# Altium integrated library Silicon Labs Wireless.IntLib: 71 symbols (part 7 of 7)
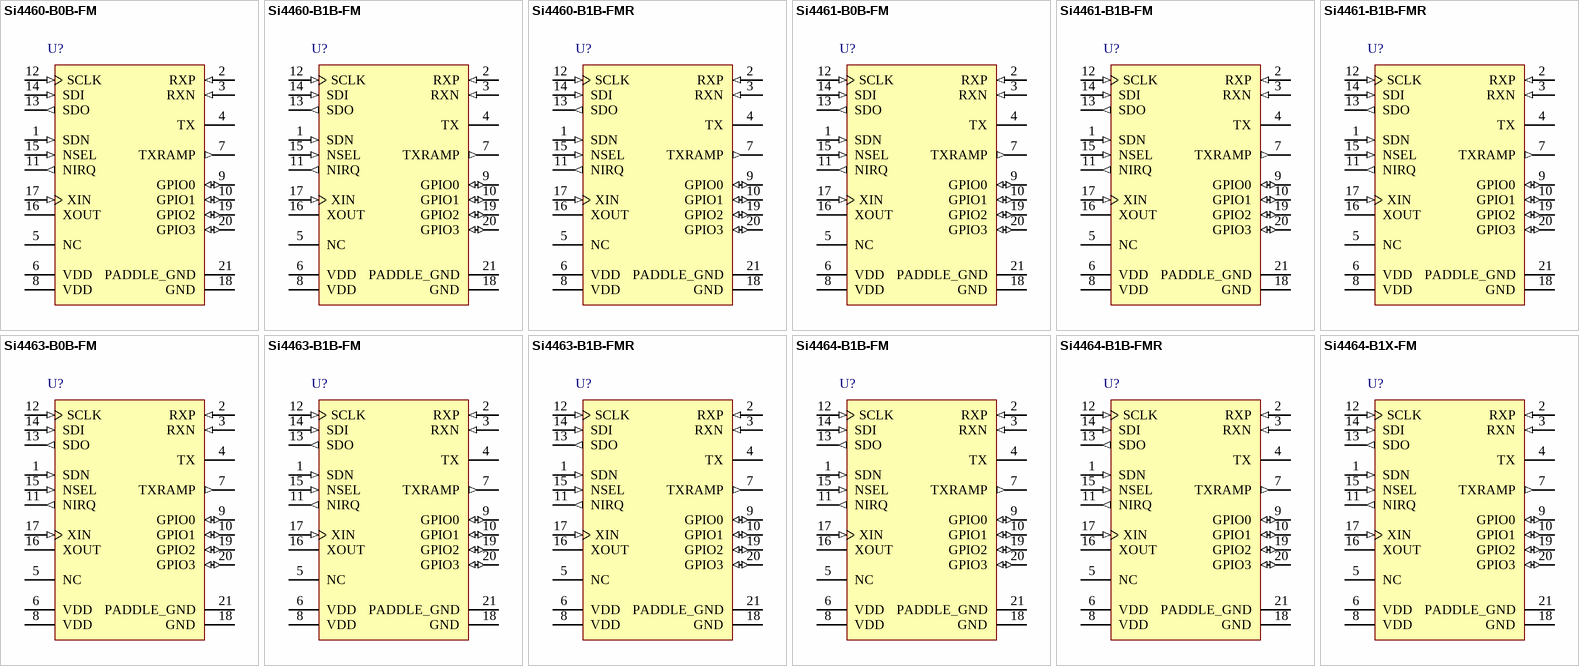
[diagram p12: symbols Si4460-B0B-FM to Si4464-B1X-FM]

## Si4460-B1B-FMR
designator U?
High-Performance, Low-Current Transceiver, 142 to 1050 MHz, -40 to 13 dBm Output Power, -40 to 85 degC, 20-pin QFN, Tape and Reel; Manufacturer: Silicon Labs; PartNumber: Si4460-B1B-FMR; FSK/GFSK: 1000 kbps; OOK: 120 kbps; RX Current: 10/13 mA; Sub-Family: EZRadioPRO; DatasheetVersion: Rev. 1.2; PackageReference: QFN-20; PackageDescription: 20-Pin Quad-Flat No-Leads Package, Body 4 x 4 mm, Pitch 0.5 mm; Supplier 1: Digi-Key; Supplier Part Number 1: SI4460-B1B-FMR-ND; Supplier 2: Mouser; Supplier Part Number 2: 634-SI4460-B1B-FMR; Frequency Range: 142 to 1050 MHz; Output Power Range: -40 to 13 dBm; Packing: Tape and Reel; Mounting Technology: Surface Mount; Code_JEDEC: MO-220; Code_IPC: J-STD-020C; ComponentLink1Description: Manufacturer URL; ComponentLink1URL: http://www.silabs.com/; ComponentLink2Description: Datasheet; ComponentLink2URL: http://www.silabs.com/Support Documents/TechnicalDocs/Si4464-63-61-60.pdf; ComponentLink3Description: Package Specification; ComponentLink3URL: http://www.silabs.com/Support%20Documents/TechnicalDocs/Si4464-63-61-60.pdf
footprint SLAB-QFN-20-2600x2600TP_N (QFN, 20-Leads, Body 4x4mm, Pitch 0.5mm, Thermal Pad 2.6x2.6mm, IPC Medium Density)
footprint SLAB-QFN-20-2600x2600TP_L (QFN, 20-Leads, Body 4x4mm, Pitch 0.5mm, Thermal Pad 2.6x2.6mm, IPC High Density)
footprint SLAB-QFN-20-2600x2600TP_M (QFN, 20-Leads, Body 4x4mm, Pitch 0.5mm, Thermal Pad 2.6x2.6mm, IPC Low Density)
pins: 1 SDN (in) "Shutdown input pin. 0-VDD V digital input. SDN should be = 0 in all modes except Shutdown mode. When SDN =1 the chip will be completely shutdown and the contents of the registers will be lost.", 2 RXP (in) "Differential RF input pins of the LNA. See application schematic for example matching network.", 3 RXN (in) "Differential RF input pins of the LNA. See application schematic for example matching network.", 4 TX (oc) "Transmit output pin. The PA output is an open-drain connection so the L-C match must supply VDD (+3.3 VDC nominal) to this pin.", 5 NC "No Connect. Not connected internally to any circuitry.", 6 VDD (power) "+1.8 to +3.6 V Supply Voltage Input to Internal Regulators", 7 TXRAMP (out) "Programmable Bias Output with Ramp Capability for External FET PA", 8 VDD (power) "+1.8 to +3.6 V Supply Voltage Input to Internal Regulators", 9 GPIO0 (io) "General Purpose Digital I/O", 10 GPIO1 (io) "General Purpose Digital I/O", 11 NIRQ (out), 12 SCLK (in), 13 SDO (out) "0-VDD V digital output that provides a serial readback function of the internal control registers.", 14 SDI (in) "Serial Data input. 0-VDD V digital input. This pin provides the serial data stream for the 4-line serial data bus.", 15 NSEL (in) "Serial Interface Select input. 0- VDD V digital input. This pin provides the Select/Enable function for the 4-line serial data bus. The signal is also used to signify burst read/write mode.", 16 XOUT "Crystal Oscillator Output.", 17 XIN (in) "Crystal Oscillator Input.", 18 GND (power) "Connect to PCB ground", 19 GPIO2 (io) "General Purpose Digital I/O", 20 GPIO3 (io) "General Purpose Digital I/O", 21 PADDLE_GND (power)

## Si4461-B0B-FM
designator U?
High-Performance, Low-Current Transceiver, 142 to 1050 MHz, -40 to 16 dBm Output Power, -40 to 85 degC, 20-pin QFN, Tube; Manufacturer: Silicon Labs; PartNumber: Si4461-B0B-FM; FSK/GFSK: 500 kbps; OOK: 120 kbps; RX Current: 10/13 mA; Sub-Family: EZRadioPRO; DatasheetVersion: Rev. 1.2; PackageReference: QFN-20; PackageDescription: 20-Pin Quad-Flat No-Leads Package, Body 4 x 4 mm, Pitch 0.5 mm; Supplier 1: Digi-Key; Supplier Part Number 1: SI4461-B0B-FM-ND; Supplier 2: Mouser; Supplier Part Number 2: 634-SI4461-B0B-FM; Frequency Range: 142 to 1050 MHz; Output Power Range: -40 to 16 dBm; Packing: Tube; Mounting Technology: Surface Mount; Code_JEDEC: MO-220; Code_IPC: J-STD-020C; ComponentLink1Description: Manufacturer URL; ComponentLink1URL: http://www.silabs.com/; ComponentLink2Description: Datasheet; ComponentLink2URL: http://www.silabs.com/Support Documents/TechnicalDocs/Si4464-63-61-60.pdf; ComponentLink3Description: Package Specification; ComponentLink3URL: http://www.silabs.com/Support%20Documents/TechnicalDocs/Si4464-63-61-60.pdf
footprint SLAB-QFN-20-2600x2600TP_N (QFN, 20-Leads, Body 4x4mm, Pitch 0.5mm, Thermal Pad 2.6x2.6mm, IPC Medium Density)
footprint SLAB-QFN-20-2600x2600TP_L (QFN, 20-Leads, Body 4x4mm, Pitch 0.5mm, Thermal Pad 2.6x2.6mm, IPC High Density)
footprint SLAB-QFN-20-2600x2600TP_M (QFN, 20-Leads, Body 4x4mm, Pitch 0.5mm, Thermal Pad 2.6x2.6mm, IPC Low Density)
pins: 1 SDN (in) "Shutdown input pin. 0-VDD V digital input. SDN should be = 0 in all modes except Shutdown mode. When SDN =1 the chip will be completely shutdown and the contents of the registers will be lost.", 2 RXP (in) "Differential RF input pins of the LNA. See application schematic for example matching network.", 3 RXN (in) "Differential RF input pins of the LNA. See application schematic for example matching network.", 4 TX (oc) "Transmit output pin. The PA output is an open-drain connection so the L-C match must supply VDD (+3.3 VDC nominal) to this pin.", 5 NC "No Connect. Not connected internally to any circuitry.", 6 VDD (power) "+1.8 to +3.6 V Supply Voltage Input to Internal Regulators", 7 TXRAMP (out) "Programmable Bias Output with Ramp Capability for External FET PA", 8 VDD (power) "+1.8 to +3.6 V Supply Voltage Input to Internal Regulators", 9 GPIO0 (io) "General Purpose Digital I/O", 10 GPIO1 (io) "General Purpose Digital I/O", 11 NIRQ (out), 12 SCLK (in), 13 SDO (out) "0-VDD V digital output that provides a serial readback function of the internal control registers.", 14 SDI (in) "Serial Data input. 0-VDD V digital input. This pin provides the serial data stream for the 4-line serial data bus.", 15 NSEL (in) "Serial Interface Select input. 0- VDD V digital input. This pin provides the Select/Enable function for the 4-line serial data bus. The signal is also used to signify burst read/write mode.", 16 XOUT "Crystal Oscillator Output.", 17 XIN (in) "Crystal Oscillator Input.", 18 GND (power) "Connect to PCB ground", 19 GPIO2 (io) "General Purpose Digital I/O", 20 GPIO3 (io) "General Purpose Digital I/O", 21 PADDLE_GND (power)

## Si4461-B1B-FM
designator U?
High-Performance, Low-Current Transceiver, 142 to 1050 MHz, -40 to 16 dBm Output Power, -40 to 85 degC, 20-pin QFN, Tube; Manufacturer: Silicon Labs; PartNumber: Si4461-B1B-FM; FSK/GFSK: 500 kbps; OOK: 120 kbps; RX Current: 10/13 mA; Sub-Family: EZRadioPRO; DatasheetVersion: Rev. 1.2; PackageReference: QFN-20; PackageDescription: 20-Pin Quad-Flat No-Leads Package, Body 4 x 4 mm, Pitch 0.5 mm; Supplier 1: Digi-Key; Supplier Part Number 1: 336-2527-5-ND; Supplier 2: Mouser; Supplier Part Number 2: 634-SI4461-B1B-FM; Frequency Range: 142 to 1050 MHz; Output Power Range: -40 to 16 dBm; Packing: Tube; Mounting Technology: Surface Mount; Code_JEDEC: MO-220; Code_IPC: J-STD-020C; ComponentLink1Description: Manufacturer URL; ComponentLink1URL: http://www.silabs.com/; ComponentLink2Description: Datasheet; ComponentLink2URL: http://www.silabs.com/Support Documents/TechnicalDocs/Si4464-63-61-60.pdf; ComponentLink3Description: Package Specification; ComponentLink3URL: http://www.silabs.com/Support%20Documents/TechnicalDocs/Si4464-63-61-60.pdf
footprint SLAB-QFN-20-2600x2600TP_N (QFN, 20-Leads, Body 4x4mm, Pitch 0.5mm, Thermal Pad 2.6x2.6mm, IPC Medium Density)
footprint SLAB-QFN-20-2600x2600TP_L (QFN, 20-Leads, Body 4x4mm, Pitch 0.5mm, Thermal Pad 2.6x2.6mm, IPC High Density)
footprint SLAB-QFN-20-2600x2600TP_M (QFN, 20-Leads, Body 4x4mm, Pitch 0.5mm, Thermal Pad 2.6x2.6mm, IPC Low Density)
pins: 1 SDN (in) "Shutdown input pin. 0-VDD V digital input. SDN should be = 0 in all modes except Shutdown mode. When SDN =1 the chip will be completely shutdown and the contents of the registers will be lost.", 2 RXP (in) "Differential RF input pins of the LNA. See application schematic for example matching network.", 3 RXN (in) "Differential RF input pins of the LNA. See application schematic for example matching network.", 4 TX (oc) "Transmit output pin. The PA output is an open-drain connection so the L-C match must supply VDD (+3.3 VDC nominal) to this pin.", 5 NC "No Connect. Not connected internally to any circuitry.", 6 VDD (power) "+1.8 to +3.6 V Supply Voltage Input to Internal Regulators", 7 TXRAMP (out) "Programmable Bias Output with Ramp Capability for External FET PA", 8 VDD (power) "+1.8 to +3.6 V Supply Voltage Input to Internal Regulators", 9 GPIO0 (io) "General Purpose Digital I/O", 10 GPIO1 (io) "General Purpose Digital I/O", 11 NIRQ (out), 12 SCLK (in), 13 SDO (out) "0-VDD V digital output that provides a serial readback function of the internal control registers.", 14 SDI (in) "Serial Data input. 0-VDD V digital input. This pin provides the serial data stream for the 4-line serial data bus.", 15 NSEL (in) "Serial Interface Select input. 0- VDD V digital input. This pin provides the Select/Enable function for the 4-line serial data bus. The signal is also used to signify burst read/write mode.", 16 XOUT "Crystal Oscillator Output.", 17 XIN (in) "Crystal Oscillator Input.", 18 GND (power) "Connect to PCB ground", 19 GPIO2 (io) "General Purpose Digital I/O", 20 GPIO3 (io) "General Purpose Digital I/O", 21 PADDLE_GND (power)

## Si4461-B1B-FMR
designator U?
High-Performance, Low-Current Transceiver, 142 to 1050 MHz, -40 to 16 dBm Output Power, -40 to 85 degC, 20-pin QFN, Tape and Reel; Manufacturer: Silicon Labs; PartNumber: Si4461-B1B-FMR; FSK/GFSK: 500 kbps; OOK: 120 kbps; RX Current: 10/13 mA; Sub-Family: EZRadioPRO; DatasheetVersion: Rev. 1.2; PackageReference: QFN-20; PackageDescription: 20-Pin Quad-Flat No-Leads Package, Body 4 x 4 mm, Pitch 0.5 mm; Supplier 1: Digi-Key; Supplier Part Number 1: SI4461-B1B-FMR-ND; Supplier 2: Mouser; Supplier Part Number 2: 634-SI4461-B1B-FMR; Frequency Range: 142 to 1050 MHz; Output Power Range: -40 to 16 dBm; Packing: Tape and Reel; Mounting Technology: Surface Mount; Code_JEDEC: MO-220; Code_IPC: J-STD-020C; ComponentLink1Description: Manufacturer URL; ComponentLink1URL: http://www.silabs.com/; ComponentLink2Description: Datasheet; ComponentLink2URL: http://www.silabs.com/Support Documents/TechnicalDocs/Si4464-63-61-60.pdf; ComponentLink3Description: Package Specification; ComponentLink3URL: http://www.silabs.com/Support%20Documents/TechnicalDocs/Si4464-63-61-60.pdf
footprint SLAB-QFN-20-2600x2600TP_N (QFN, 20-Leads, Body 4x4mm, Pitch 0.5mm, Thermal Pad 2.6x2.6mm, IPC Medium Density)
footprint SLAB-QFN-20-2600x2600TP_L (QFN, 20-Leads, Body 4x4mm, Pitch 0.5mm, Thermal Pad 2.6x2.6mm, IPC High Density)
footprint SLAB-QFN-20-2600x2600TP_M (QFN, 20-Leads, Body 4x4mm, Pitch 0.5mm, Thermal Pad 2.6x2.6mm, IPC Low Density)
pins: 1 SDN (in) "Shutdown input pin. 0-VDD V digital input. SDN should be = 0 in all modes except Shutdown mode. When SDN =1 the chip will be completely shutdown and the contents of the registers will be lost.", 2 RXP (in) "Differential RF input pins of the LNA. See application schematic for example matching network.", 3 RXN (in) "Differential RF input pins of the LNA. See application schematic for example matching network.", 4 TX (oc) "Transmit output pin. The PA output is an open-drain connection so the L-C match must supply VDD (+3.3 VDC nominal) to this pin.", 5 NC "No Connect. Not connected internally to any circuitry.", 6 VDD (power) "+1.8 to +3.6 V Supply Voltage Input to Internal Regulators", 7 TXRAMP (out) "Programmable Bias Output with Ramp Capability for External FET PA", 8 VDD (power) "+1.8 to +3.6 V Supply Voltage Input to Internal Regulators", 9 GPIO0 (io) "General Purpose Digital I/O", 10 GPIO1 (io) "General Purpose Digital I/O", 11 NIRQ (out), 12 SCLK (in), 13 SDO (out) "0-VDD V digital output that provides a serial readback function of the internal control registers.", 14 SDI (in) "Serial Data input. 0-VDD V digital input. This pin provides the serial data stream for the 4-line serial data bus.", 15 NSEL (in) "Serial Interface Select input. 0- VDD V digital input. This pin provides the Select/Enable function for the 4-line serial data bus. The signal is also used to signify burst read/write mode.", 16 XOUT "Crystal Oscillator Output.", 17 XIN (in) "Crystal Oscillator Input.", 18 GND (power) "Connect to PCB ground", 19 GPIO2 (io) "General Purpose Digital I/O", 20 GPIO3 (io) "General Purpose Digital I/O", 21 PADDLE_GND (power)

## Si4463-B0B-FM
designator U?
High-Performance, Low-Current Transceiver, 142 to 1050 MHz, -20 to 20 dBm Output Power, -40 to 85 degC, 20-pin QFN, Tube; Manufacturer: Silicon Labs; PartNumber: Si4463-B0B-FM; FSK/GFSK: 500 kbps; OOK: 120 kbps; RX Current: 10/13 mA; Sub-Family: EZRadioPRO; DatasheetVersion: Rev. 1.2; PackageReference: QFN-20; PackageDescription: 20-Pin Quad-Flat No-Leads Package, Body 4 x 4 mm, Pitch 0.5 mm; Supplier 1: Digi-Key; Supplier Part Number 1: SI4463-B0B-FM-ND; Supplier 2: Mouser; Supplier Part Number 2: 634-SI4463-B0B-FM; Frequency Range: 142 to 1050 MHz; Output Power Range: -20 to 20 dBm; Packing: Tube; Mounting Technology: Surface Mount; Code_JEDEC: MO-220; Code_IPC: J-STD-020C; ComponentLink1Description: Manufacturer URL; ComponentLink1URL: http://www.silabs.com/; ComponentLink2Description: Datasheet; ComponentLink2URL: http://www.silabs.com/Support Documents/TechnicalDocs/Si4464-63-61-60.pdf; ComponentLink3Description: Package Specification; ComponentLink3URL: http://www.silabs.com/Support%20Documents/TechnicalDocs/Si4464-63-61-60.pdf
footprint SLAB-QFN-20-2600x2600TP_N (QFN, 20-Leads, Body 4x4mm, Pitch 0.5mm, Thermal Pad 2.6x2.6mm, IPC Medium Density)
footprint SLAB-QFN-20-2600x2600TP_L (QFN, 20-Leads, Body 4x4mm, Pitch 0.5mm, Thermal Pad 2.6x2.6mm, IPC High Density)
footprint SLAB-QFN-20-2600x2600TP_M (QFN, 20-Leads, Body 4x4mm, Pitch 0.5mm, Thermal Pad 2.6x2.6mm, IPC Low Density)
pins: 1 SDN (in) "Shutdown input pin. 0-VDD V digital input. SDN should be = 0 in all modes except Shutdown mode. When SDN =1 the chip will be completely shutdown and the contents of the registers will be lost.", 2 RXP (in) "Differential RF input pins of the LNA. See application schematic for example matching network.", 3 RXN (in) "Differential RF input pins of the LNA. See application schematic for example matching network.", 4 TX (oc) "Transmit output pin. The PA output is an open-drain connection so the L-C match must supply VDD (+3.3 VDC nominal) to this pin.", 5 NC "No Connect. Not connected internally to any circuitry.", 6 VDD (power) "+1.8 to +3.6 V Supply Voltage Input to Internal Regulators", 7 TXRAMP (out) "Programmable Bias Output with Ramp Capability for External FET PA", 8 VDD (power) "+1.8 to +3.6 V Supply Voltage Input to Internal Regulators", 9 GPIO0 (io) "General Purpose Digital I/O", 10 GPIO1 (io) "General Purpose Digital I/O", 11 NIRQ (out), 12 SCLK (in), 13 SDO (out) "0-VDD V digital output that provides a serial readback function of the internal control registers.", 14 SDI (in) "Serial Data input. 0-VDD V digital input. This pin provides the serial data stream for the 4-line serial data bus.", 15 NSEL (in) "Serial Interface Select input. 0- VDD V digital input. This pin provides the Select/Enable function for the 4-line serial data bus. The signal is also used to signify burst read/write mode.", 16 XOUT "Crystal Oscillator Output.", 17 XIN (in) "Crystal Oscillator Input.", 18 GND (power) "Connect to PCB ground", 19 GPIO2 (io) "General Purpose Digital I/O", 20 GPIO3 (io) "General Purpose Digital I/O", 21 PADDLE_GND (power)

## Si4463-B1B-FM
designator U?
High-Performance, Low-Current Transceiver, 142 to 1050 MHz, -20 to 20 dBm Output Power, -40 to 85 degC, 20-pin QFN, Tube; Manufacturer: Silicon Labs; PartNumber: Si4463-B1B-FM; FSK/GFSK: 500 kbps; OOK: 120 kbps; RX Current: 10/13 mA; Sub-Family: EZRadioPRO; DatasheetVersion: Rev. 1.2; PackageReference: QFN-20; PackageDescription: 20-Pin Quad-Flat No-Leads Package, Body 4 x 4 mm, Pitch 0.5 mm; Supplier 1: Digi-Key; Supplier Part Number 1: 336-2471-5-ND; Supplier 2: Mouser; Supplier Part Number 2: 634-SI4463-B1B-FM; Frequency Range: 142 to 1050 MHz; Output Power Range: -20 to 20 dBm; Packing: Tube; Mounting Technology: Surface Mount; Code_JEDEC: MO-220; Code_IPC: J-STD-020C; ComponentLink1Description: Manufacturer URL; ComponentLink1URL: http://www.silabs.com/; ComponentLink2Description: Datasheet; ComponentLink2URL: http://www.silabs.com/Support Documents/TechnicalDocs/Si4464-63-61-60.pdf; ComponentLink3Description: Package Specification; ComponentLink3URL: http://www.silabs.com/Support%20Documents/TechnicalDocs/Si4464-63-61-60.pdf
footprint SLAB-QFN-20-2600x2600TP_N (QFN, 20-Leads, Body 4x4mm, Pitch 0.5mm, Thermal Pad 2.6x2.6mm, IPC Medium Density)
footprint SLAB-QFN-20-2600x2600TP_L (QFN, 20-Leads, Body 4x4mm, Pitch 0.5mm, Thermal Pad 2.6x2.6mm, IPC High Density)
footprint SLAB-QFN-20-2600x2600TP_M (QFN, 20-Leads, Body 4x4mm, Pitch 0.5mm, Thermal Pad 2.6x2.6mm, IPC Low Density)
pins: 1 SDN (in) "Shutdown input pin. 0-VDD V digital input. SDN should be = 0 in all modes except Shutdown mode. When SDN =1 the chip will be completely shutdown and the contents of the registers will be lost.", 2 RXP (in) "Differential RF input pins of the LNA. See application schematic for example matching network.", 3 RXN (in) "Differential RF input pins of the LNA. See application schematic for example matching network.", 4 TX (oc) "Transmit output pin. The PA output is an open-drain connection so the L-C match must supply VDD (+3.3 VDC nominal) to this pin.", 5 NC "No Connect. Not connected internally to any circuitry.", 6 VDD (power) "+1.8 to +3.6 V Supply Voltage Input to Internal Regulators", 7 TXRAMP (out) "Programmable Bias Output with Ramp Capability for External FET PA", 8 VDD (power) "+1.8 to +3.6 V Supply Voltage Input to Internal Regulators", 9 GPIO0 (io) "General Purpose Digital I/O", 10 GPIO1 (io) "General Purpose Digital I/O", 11 NIRQ (out), 12 SCLK (in), 13 SDO (out) "0-VDD V digital output that provides a serial readback function of the internal control registers.", 14 SDI (in) "Serial Data input. 0-VDD V digital input. This pin provides the serial data stream for the 4-line serial data bus.", 15 NSEL (in) "Serial Interface Select input. 0- VDD V digital input. This pin provides the Select/Enable function for the 4-line serial data bus. The signal is also used to signify burst read/write mode.", 16 XOUT "Crystal Oscillator Output.", 17 XIN (in) "Crystal Oscillator Input.", 18 GND (power) "Connect to PCB ground", 19 GPIO2 (io) "General Purpose Digital I/O", 20 GPIO3 (io) "General Purpose Digital I/O", 21 PADDLE_GND (power)

## Si4463-B1B-FMR
designator U?
High-Performance, Low-Current Transceiver, 142 to 1050 MHz, -20 to 20 dBm Output Power, -40 to 85 degC, 20-pin QFN, Tape and Reel; Manufacturer: Silicon Labs; PartNumber: Si4463-B1B-FMR; FSK/GFSK: 500 kbps; OOK: 120 kbps; RX Current: 10/13 mA; Sub-Family: EZRadioPRO; DatasheetVersion: Rev. 1.2; PackageReference: QFN-20; PackageDescription: 20-Pin Quad-Flat No-Leads Package, Body 4 x 4 mm, Pitch 0.5 mm; Supplier 1: Digi-Key; Supplier Part Number 1: SI4463-B1B-FMR-ND; Supplier 2: Mouser; Supplier Part Number 2: 634-SI4463-B1B-FMR; Frequency Range: 142 to 1050 MHz; Output Power Range: -20 to 20 dBm; Packing: Tape and Reel; Mounting Technology: Surface Mount; Code_JEDEC: MO-220; Code_IPC: J-STD-020C; ComponentLink1Description: Manufacturer URL; ComponentLink1URL: http://www.silabs.com/; ComponentLink2Description: Datasheet; ComponentLink2URL: http://www.silabs.com/Support Documents/TechnicalDocs/Si4464-63-61-60.pdf; ComponentLink3Description: Package Specification; ComponentLink3URL: http://www.silabs.com/Support%20Documents/TechnicalDocs/Si4464-63-61-60.pdf
footprint SLAB-QFN-20-2600x2600TP_N (QFN, 20-Leads, Body 4x4mm, Pitch 0.5mm, Thermal Pad 2.6x2.6mm, IPC Medium Density)
footprint SLAB-QFN-20-2600x2600TP_L (QFN, 20-Leads, Body 4x4mm, Pitch 0.5mm, Thermal Pad 2.6x2.6mm, IPC High Density)
footprint SLAB-QFN-20-2600x2600TP_M (QFN, 20-Leads, Body 4x4mm, Pitch 0.5mm, Thermal Pad 2.6x2.6mm, IPC Low Density)
pins: 1 SDN (in) "Shutdown input pin. 0-VDD V digital input. SDN should be = 0 in all modes except Shutdown mode. When SDN =1 the chip will be completely shutdown and the contents of the registers will be lost.", 2 RXP (in) "Differential RF input pins of the LNA. See application schematic for example matching network.", 3 RXN (in) "Differential RF input pins of the LNA. See application schematic for example matching network.", 4 TX (oc) "Transmit output pin. The PA output is an open-drain connection so the L-C match must supply VDD (+3.3 VDC nominal) to this pin.", 5 NC "No Connect. Not connected internally to any circuitry.", 6 VDD (power) "+1.8 to +3.6 V Supply Voltage Input to Internal Regulators", 7 TXRAMP (out) "Programmable Bias Output with Ramp Capability for External FET PA", 8 VDD (power) "+1.8 to +3.6 V Supply Voltage Input to Internal Regulators", 9 GPIO0 (io) "General Purpose Digital I/O", 10 GPIO1 (io) "General Purpose Digital I/O", 11 NIRQ (out), 12 SCLK (in), 13 SDO (out) "0-VDD V digital output that provides a serial readback function of the internal control registers.", 14 SDI (in) "Serial Data input. 0-VDD V digital input. This pin provides the serial data stream for the 4-line serial data bus.", 15 NSEL (in) "Serial Interface Select input. 0- VDD V digital input. This pin provides the Select/Enable function for the 4-line serial data bus. The signal is also used to signify burst read/write mode.", 16 XOUT "Crystal Oscillator Output.", 17 XIN (in) "Crystal Oscillator Input.", 18 GND (power) "Connect to PCB ground", 19 GPIO2 (io) "General Purpose Digital I/O", 20 GPIO3 (io) "General Purpose Digital I/O", 21 PADDLE_GND (power)

## Si4464-B1B-FM
designator U?
High-Performance, Low-Current Transceiver, 119 to 960 MHz, -20 to 20 dBm Output Power, -40 to 85 degC, 20-pin QFN, Tube; Manufacturer: Silicon Labs; PartNumber: Si4464-B1B-FM; FSK/GFSK: 500 kbps; OOK: 120 kbps; RX Current: 10.6/13.6 mA; Sub-Family: EZRadioPRO; DatasheetVersion: Rev. 1.2; PackageReference: QFN-20; PackageDescription: 20-Pin Quad-Flat No-Leads Package, Body 4 x 4 mm, Pitch 0.5 mm; Supplier 1: Digi-Key; Supplier Part Number 1: 336-2472-5-ND; Supplier 2: Mouser; Supplier Part Number 2: 634-SI4464-B1X-FM; Frequency Range: 119 to 960 MHz; Output Power Range: -20 to 20 dBm; Packing: Tube; Mounting Technology: Surface Mount; Code_JEDEC: MO-220; Code_IPC: J-STD-020C; ComponentLink1Description: Manufacturer URL; ComponentLink1URL: http://www.silabs.com/; ComponentLink2Description: Datasheet; ComponentLink2URL: http://www.silabs.com/Support Documents/TechnicalDocs/Si4464-63-61-60.pdf; ComponentLink3Description: Package Specification; ComponentLink3URL: http://www.silabs.com/Support%20Documents/TechnicalDocs/Si4464-63-61-60.pdf
footprint SLAB-QFN-20-2600x2600TP_N (QFN, 20-Leads, Body 4x4mm, Pitch 0.5mm, Thermal Pad 2.6x2.6mm, IPC Medium Density)
footprint SLAB-QFN-20-2600x2600TP_L (QFN, 20-Leads, Body 4x4mm, Pitch 0.5mm, Thermal Pad 2.6x2.6mm, IPC High Density)
footprint SLAB-QFN-20-2600x2600TP_M (QFN, 20-Leads, Body 4x4mm, Pitch 0.5mm, Thermal Pad 2.6x2.6mm, IPC Low Density)
pins: 1 SDN (in) "Shutdown input pin. 0-VDD V digital input. SDN should be = 0 in all modes except Shutdown mode. When SDN =1 the chip will be completely shutdown and the contents of the registers will be lost.", 2 RXP (in) "Differential RF input pins of the LNA. See application schematic for example matching network.", 3 RXN (in) "Differential RF input pins of the LNA. See application schematic for example matching network.", 4 TX (oc) "Transmit output pin. The PA output is an open-drain connection so the L-C match must supply VDD (+3.3 VDC nominal) to this pin.", 5 NC "No Connect. Not connected internally to any circuitry.", 6 VDD (power) "+1.8 to +3.6 V Supply Voltage Input to Internal Regulators", 7 TXRAMP (out) "Programmable Bias Output with Ramp Capability for External FET PA", 8 VDD (power) "+1.8 to +3.6 V Supply Voltage Input to Internal Regulators", 9 GPIO0 (io) "General Purpose Digital I/O", 10 GPIO1 (io) "General Purpose Digital I/O", 11 NIRQ (out), 12 SCLK (in), 13 SDO (out) "0-VDD V digital output that provides a serial readback function of the internal control registers.", 14 SDI (in) "Serial Data input. 0-VDD V digital input. This pin provides the serial data stream for the 4-line serial data bus.", 15 NSEL (in) "Serial Interface Select input. 0- VDD V digital input. This pin provides the Select/Enable function for the 4-line serial data bus. The signal is also used to signify burst read/write mode.", 16 XOUT "Crystal Oscillator Output.", 17 XIN (in) "Crystal Oscillator Input.", 18 GND (power) "Connect to PCB ground", 19 GPIO2 (io) "General Purpose Digital I/O", 20 GPIO3 (io) "General Purpose Digital I/O", 21 PADDLE_GND (power)

## Si4464-B1B-FMR
designator U?
High-Performance, Low-Current Transceiver, 119 to 960 MHz, -20 to 20 dBm Output Power, -40 to 85 degC, 20-pin QFN, Tape and Reel; Manufacturer: Silicon Labs; PartNumber: Si4464-B1B-FMR; FSK/GFSK: 500 kbps; OOK: 120 kbps; RX Current: 10.6/13.6 mA; Sub-Family: EZRadioPRO; DatasheetVersion: Rev. 1.2; PackageReference: QFN-20; PackageDescription: 20-Pin Quad-Flat No-Leads Package, Body 4 x 4 mm, Pitch 0.5 mm; Supplier 1: Digi-Key; Supplier Part Number 1: SI4464-B1B-FMR-ND; Supplier 2: Mouser; Supplier Part Number 2: 634-SI4464-B1X-FMR; Frequency Range: 119 to 960 MHz; Output Power Range: -20 to 20 dBm; Packing: Tape and Reel; Mounting Technology: Surface Mount; Code_JEDEC: MO-220; Code_IPC: J-STD-020C; ComponentLink1Description: Manufacturer URL; ComponentLink1URL: http://www.silabs.com/; ComponentLink2Description: Datasheet; ComponentLink2URL: http://www.silabs.com/Support Documents/TechnicalDocs/Si4464-63-61-60.pdf; ComponentLink3Description: Package Specification; ComponentLink3URL: http://www.silabs.com/Support%20Documents/TechnicalDocs/Si4464-63-61-60.pdf
footprint SLAB-QFN-20-2600x2600TP_N (QFN, 20-Leads, Body 4x4mm, Pitch 0.5mm, Thermal Pad 2.6x2.6mm, IPC Medium Density)
footprint SLAB-QFN-20-2600x2600TP_L (QFN, 20-Leads, Body 4x4mm, Pitch 0.5mm, Thermal Pad 2.6x2.6mm, IPC High Density)
footprint SLAB-QFN-20-2600x2600TP_M (QFN, 20-Leads, Body 4x4mm, Pitch 0.5mm, Thermal Pad 2.6x2.6mm, IPC Low Density)
pins: 1 SDN (in) "Shutdown input pin. 0-VDD V digital input. SDN should be = 0 in all modes except Shutdown mode. When SDN =1 the chip will be completely shutdown and the contents of the registers will be lost.", 2 RXP (in) "Differential RF input pins of the LNA. See application schematic for example matching network.", 3 RXN (in) "Differential RF input pins of the LNA. See application schematic for example matching network.", 4 TX (oc) "Transmit output pin. The PA output is an open-drain connection so the L-C match must supply VDD (+3.3 VDC nominal) to this pin.", 5 NC "No Connect. Not connected internally to any circuitry.", 6 VDD (power) "+1.8 to +3.6 V Supply Voltage Input to Internal Regulators", 7 TXRAMP (out) "Programmable Bias Output with Ramp Capability for External FET PA", 8 VDD (power) "+1.8 to +3.6 V Supply Voltage Input to Internal Regulators", 9 GPIO0 (io) "General Purpose Digital I/O", 10 GPIO1 (io) "General Purpose Digital I/O", 11 NIRQ (out), 12 SCLK (in), 13 SDO (out) "0-VDD V digital output that provides a serial readback function of the internal control registers.", 14 SDI (in) "Serial Data input. 0-VDD V digital input. This pin provides the serial data stream for the 4-line serial data bus.", 15 NSEL (in) "Serial Interface Select input. 0- VDD V digital input. This pin provides the Select/Enable function for the 4-line serial data bus. The signal is also used to signify burst read/write mode.", 16 XOUT "Crystal Oscillator Output.", 17 XIN (in) "Crystal Oscillator Input.", 18 GND (power) "Connect to PCB ground", 19 GPIO2 (io) "General Purpose Digital I/O", 20 GPIO3 (io) "General Purpose Digital I/O", 21 PADDLE_GND (power)

## Si4464-B1X-FM
designator U?
High-Performance, Low-Current Transceiver, 119 to 960 MHz, -20 to 20 dBm Output Power, -40 to 85 degC, 20-pin QFN, Tube; Manufacturer: Silicon Labs; PartNumber: Si4464-B1X-FM; FSK/GFSK: 500 kbps; OOK: 120 kbps; RX Current: 10.6/13.6 mA; Sub-Family: EZRadioPRO; DatasheetVersion: Rev. 1.2; PackageReference: QFN-20; PackageDescription: 20-Pin Quad-Flat No-Leads Package, Body 4 x 4 mm, Pitch 0.5 mm; Supplier 1: Digi-Key; Supplier Part Number 1: SI4464-B1X-FM-ND; Frequency Range: 119 to 960 MHz; Output Power Range: -20 to 20 dBm; Packing: Tube; Mounting Technology: Surface Mount; Code_JEDEC: MO-220; Code_IPC: J-STD-020C; ComponentLink1Description: Manufacturer URL; ComponentLink1URL: http://www.silabs.com/; ComponentLink2Description: Datasheet; ComponentLink2URL: http://www.silabs.com/Support Documents/TechnicalDocs/Si4464-63-61-60.pdf; ComponentLink3Description: Package Specification; ComponentLink3URL: http://www.silabs.com/Support%20Documents/TechnicalDocs/Si4464-63-61-60.pdf
footprint SLAB-QFN-20-2600x2600TP_N (QFN, 20-Leads, Body 4x4mm, Pitch 0.5mm, Thermal Pad 2.6x2.6mm, IPC Medium Density)
footprint SLAB-QFN-20-2600x2600TP_L (QFN, 20-Leads, Body 4x4mm, Pitch 0.5mm, Thermal Pad 2.6x2.6mm, IPC High Density)
footprint SLAB-QFN-20-2600x2600TP_M (QFN, 20-Leads, Body 4x4mm, Pitch 0.5mm, Thermal Pad 2.6x2.6mm, IPC Low Density)
pins: 1 SDN (in) "Shutdown input pin. 0-VDD V digital input. SDN should be = 0 in all modes except Shutdown mode. When SDN =1 the chip will be completely shutdown and the contents of the registers will be lost.", 2 RXP (in) "Differential RF input pins of the LNA. See application schematic for example matching network.", 3 RXN (in) "Differential RF input pins of the LNA. See application schematic for example matching network.", 4 TX (oc) "Transmit output pin. The PA output is an open-drain connection so the L-C match must supply VDD (+3.3 VDC nominal) to this pin.", 5 NC "No Connect. Not connected internally to any circuitry.", 6 VDD (power) "+1.8 to +3.6 V Supply Voltage Input to Internal Regulators", 7 TXRAMP (out) "Programmable Bias Output with Ramp Capability for External FET PA", 8 VDD (power) "+1.8 to +3.6 V Supply Voltage Input to Internal Regulators", 9 GPIO0 (io) "General Purpose Digital I/O", 10 GPIO1 (io) "General Purpose Digital I/O", 11 NIRQ (out), 12 SCLK (in), 13 SDO (out) "0-VDD V digital output that provides a serial readback function of the internal control registers.", 14 SDI (in) "Serial Data input. 0-VDD V digital input. This pin provides the serial data stream for the 4-line serial data bus.", 15 NSEL (in) "Serial Interface Select input. 0- VDD V digital input. This pin provides the Select/Enable function for the 4-line serial data bus. The signal is also used to signify burst read/write mode.", 16 XOUT "Crystal Oscillator Output.", 17 XIN (in) "Crystal Oscillator Input.", 18 GND (power) "Connect to PCB ground", 19 GPIO2 (io) "General Purpose Digital I/O", 20 GPIO3 (io) "General Purpose Digital I/O", 21 PADDLE_GND (power)